# Altium footprint library TRANS_DTC113ZKAT146.PcbLib: 1 footprints
Each footprint in its own frame and in the unit in brackets; x right, y up, seen from the top. Pads: shape width x height; smd on the part's side, far side on the other; paste and mask are expansions set on the pad; w line width, h text height; cw(c..) or ccw(c..) is an arc to the next point about the centre after c.
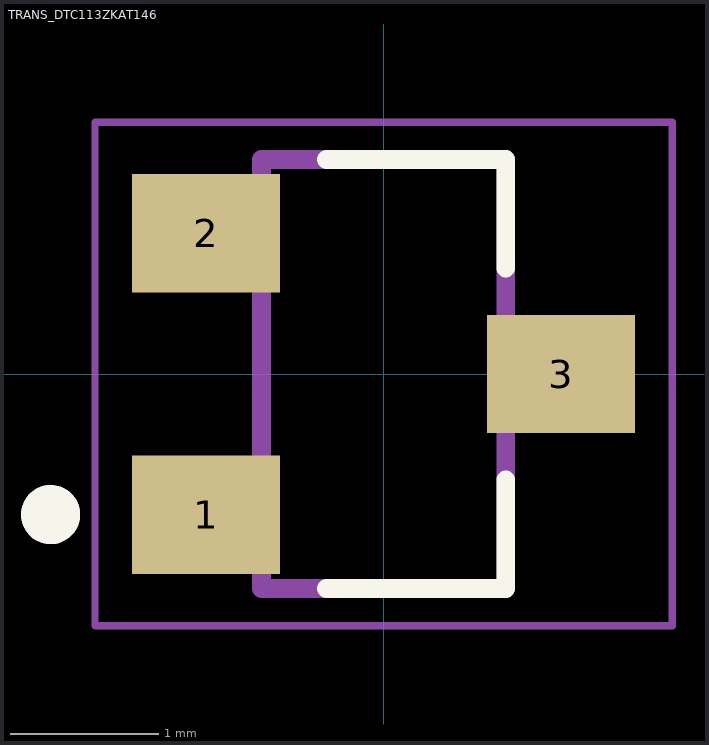
[diagram p0: the footprint, top view; thin cyan lines are the x and y axes]

## TRANS_DTC113ZKAT146 [mm]
pads (3):
  rect 1x0.8 smd: 1(-1.2,-0.95) 2(-1.2,0.95) 3(1.2,0)
Top Overlay:
  circle w0.2: c-2.25,-0.95 r0.1
  lines w0.127: -0.385,-1.45 0.825,-1.45 0.825,-0.715 ; -0.385,1.45 0.825,1.45 0.825,0.715
Mechanical 13:
  circle w0.2: c-2.25,-0.95 r0.1
  lines w0.127: -0.825,-1.45 -0.825,1.45 0.825,1.45 0.825,-1.45 -0.825,-1.45
Mechanical 15:
  lines w0.05: -1.95,-1.7 -1.95,1.7 1.95,1.7 1.95,-1.7 -1.95,-1.7
3D body "step_temp.STEP": height 1.4, standoff 0, extent -1.4,-1.45 1.4,1.45